# EAGLE library part 14A-10VA (library trafo-signal)
TRANSFORMER
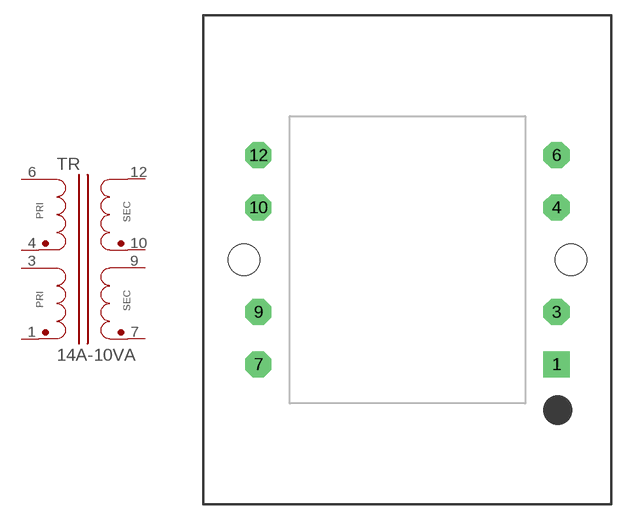
[diagram p8: symbol with the pads of 14A-10VA; footprint 14A-10VA]

Designator prefix TR

## 14A-10VA  [14A-10VA]
1  1  pas
3  3  pas
4  4  pas
6  6  pas
7  7  pas
9  9  pas
10  10  pas
12  12  pas

## Footprint 14A-10VA (pad centres in mm)
14A Series - 10VA
drill 1.676 pad 2.54 square: 1 14.478,-10.16
drill 1.676 pad 2.54 octagon: 3 14.478,-5.08; 4 14.478,5.08; 6 14.478,10.16; 7 -14.478,-10.16; 9 -14.478,-5.08; 10 -14.478,5.08; 12 -14.478,10.16
hole 3.048 at -15.875,0
hole 3.048 at 15.875,0